# Altium schematic symbol library 2A_Fuse.SchLib: 1 symbol
Pins are listed as number, name and electrical type; pins without a type are passive.

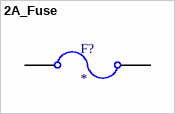
[diagram p0: symbol 2A_Fuse]

## 2A_Fuse
designator F?
footprint 2A_Fuse
pins: 0, 1